# Altium footprint library PcbLib1.PcbLib: 15 footprints
Each footprint in its own frame and in the unit in brackets; x right, y up, seen from the top. Pads: shape width x height; smd on the part's side, far side on the other; paste and mask are expansions set on the pad; w line width, h text height; cw(c..) or ccw(c..) is an arc to the next point about the centre after c.
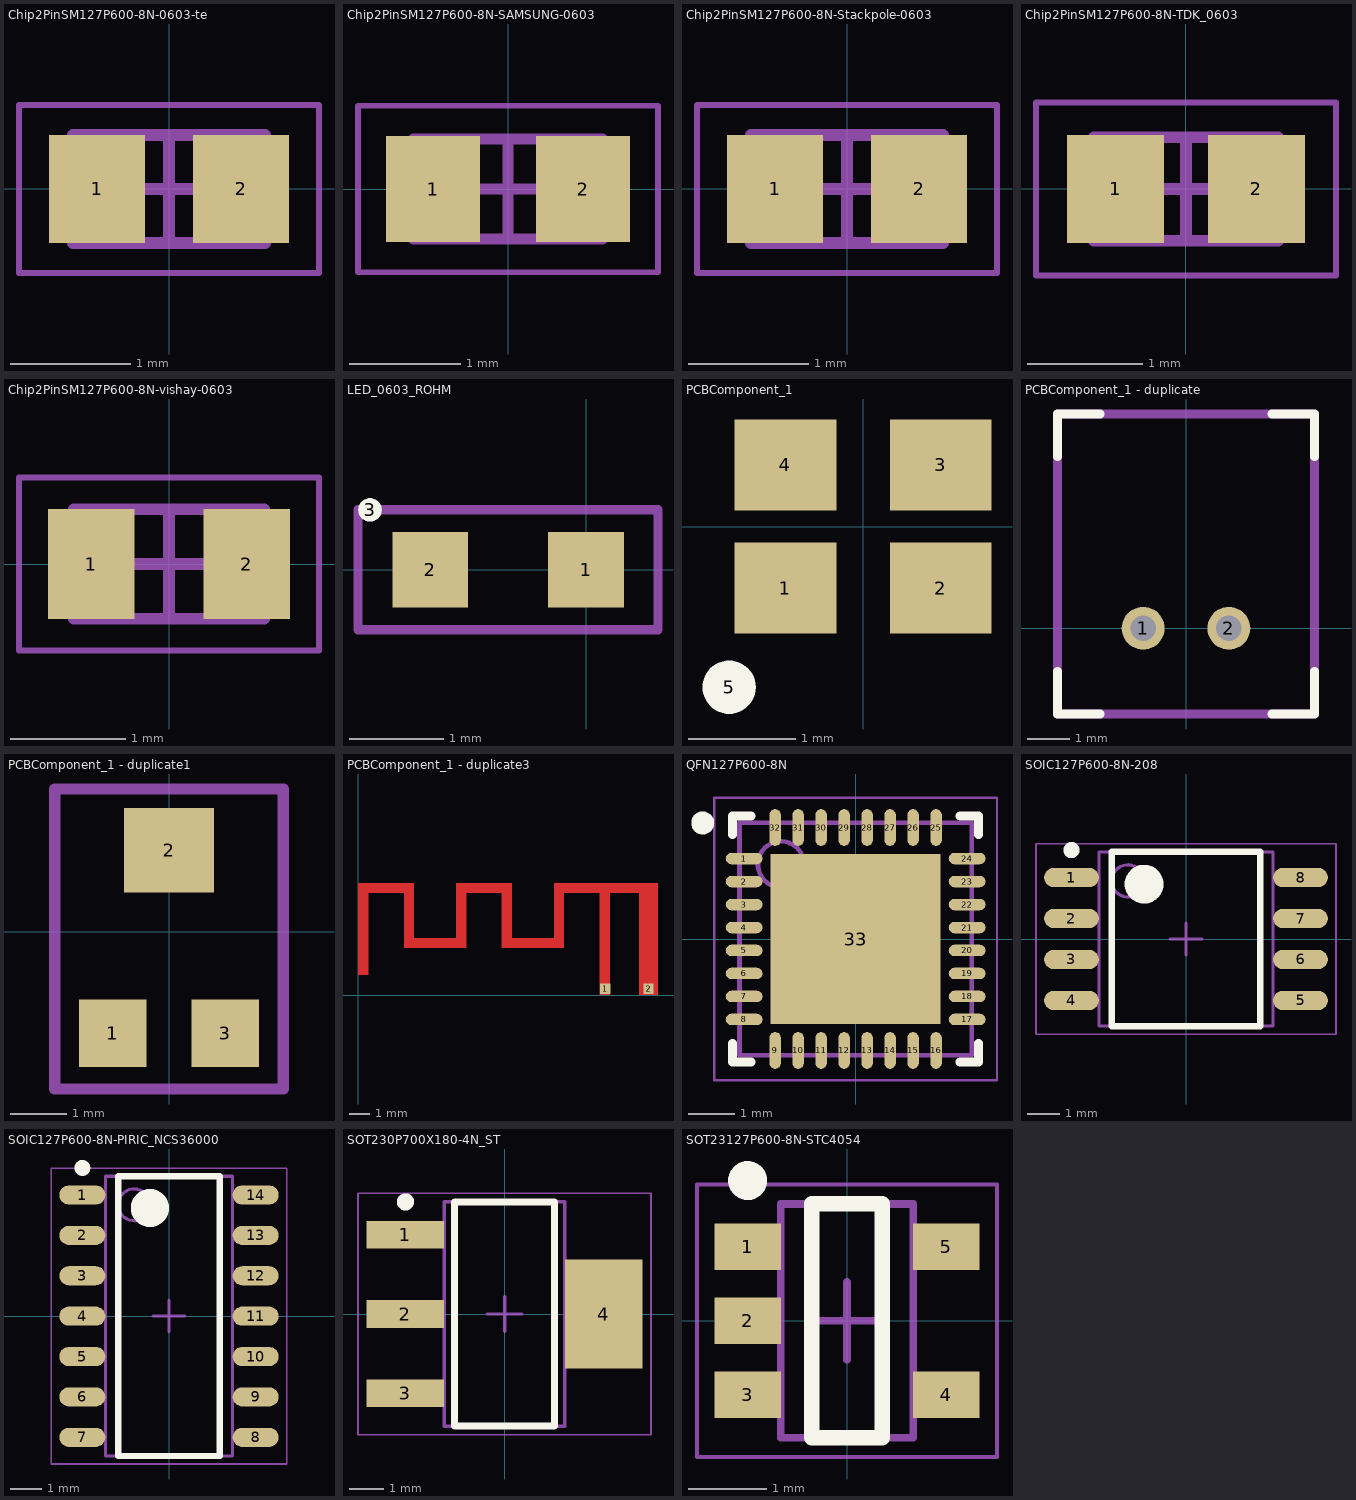
[diagram p0: the footprints below, top view; thin cyan lines are the x and y axes]

## Chip2PinSM127P600-8N-0603-te [mm]
height 0.65
pads (2):
  rect 0.8x0.9 smd: 1(-0.6,0) 2(0.6,0)
Mechanical 13:
  lines w0.1: -0.8,-0.45 0.8,-0.45 0.8,0.45 -0.8,0.45 -0.8,-0.45
Mechanical 15:
  lines w0.05: -1.25,-0.7 1.25,-0.7 1.25,0.7 -1.25,0.7 -1.25,-0.7
  lines w0.1: -0.45,0 0.45,0 ; 0,-0.45 0,0.45
3D body "Chip2PinSM127P600-8N-0603-te.step": height 0.65, standoff 0, extent -0.8,-0.45 0.8,0.45

## Chip2PinSM127P600-8N-SAMSUNG-0603 [mm]
height 0.9
pads (2):
  rect 0.85x0.95 smd: 1(-0.675,0) 2(0.675,0)
Mechanical 13:
  lines w0.1: -0.85,-0.45 0.85,-0.45 0.85,0.45 -0.85,0.45 -0.85,-0.45
Mechanical 15:
  lines w0.05: -1.35,-0.75 1.35,-0.75 1.35,0.75 -1.35,0.75 -1.35,-0.75
  lines w0.1: -0.45,0 0.45,0 ; 0,-0.45 0,0.45
3D body: height 0.9, standoff 0, extent 0.55,-0.45 0.85,0.45
3D body: height 0.9, standoff 0, extent -0.85,-0.45 -0.55,0.45
3D body: height 0.9, standoff 0, extent -0.55,-0.45 0.55,0.45

## Chip2PinSM127P600-8N-Stackpole-0603 [mm]
height 0.5
pads (2):
  rect 0.8x0.9 smd: 1(-0.6,0) 2(0.6,0)
Mechanical 13:
  lines w0.1: -0.8,-0.45 0.8,-0.45 0.8,0.45 -0.8,0.45 -0.8,-0.45
Mechanical 15:
  lines w0.05: -1.25,-0.7 1.25,-0.7 1.25,0.7 -1.25,0.7 -1.25,-0.7
  lines w0.1: -0.45,0 0.45,0 ; 0,-0.45 0,0.45
3D body "Chip2PinSM127P600-8N.step": height 0.5, standoff 0, extent -0.8,-0.45 0.8,0.45

## Chip2PinSM127P600-8N-TDK_0603 [mm]
height 0.9
pads (2):
  rect 0.84x0.94 smd: 1(-0.61,0) 2(0.61,0)
Mechanical 13:
  lines w0.1: -0.8,-0.45 -0.8,0.45 0.8,0.45 0.8,-0.45 -0.8,-0.45
Mechanical 15:
  lines w0.05: -1.3,-0.75 -1.3,0.75 1.3,0.75 1.3,-0.75 -1.3,-0.75
  lines w0.1: -0.45,0 0.45,0 ; 0,-0.45 0,0.45
3D body "Chip2PinSM127P600-8N-TDK_0603.step": height 0.9, standoff 0, extent -0.8,-0.45 0.8,0.45

## Chip2PinSM127P600-8N-vishay-0603 [mm]
height 0.5
pads (2):
  rect 0.75x0.95 smd: 1(-0.675,0) 2(0.675,0)
Mechanical 13:
  lines w0.1: -0.825,-0.475 -0.825,0.475 0.825,0.475 0.825,-0.475 -0.825,-0.475
Mechanical 15:
  lines w0.05: -1.3,-0.75 -1.3,0.75 1.3,0.75 1.3,-0.75 -1.3,-0.75
  lines w0.1: -0.475,0 0.475,0 ; 0,-0.475 0,0.475
3D body "Chip2PinSM127P600-8N-vishay-0603.step": height 0.5, standoff 0, extent -0.825,-0.475 0.825,0.475

## LED_0603_ROHM [mm]
pads (3):
  rect 0.8x0.8 smd: 1(0,0) 2(-1.65,0)
  round 0.25 on Top Overlay: 3(-2.286,0.635)
Mechanical 15:
  lines w0.1: -2.413,-0.635 0.762,-0.635 0.762,0.635 -2.413,0.635 -2.413,-0.635
3D body "User Library-LED SMD0603.step": height 0.68, standoff 0, extent -1.714,-0.344 -0.064,0.381

## PCBComponent_1 [mm]
pads (5):
  rect 0.95x0.85 smd: 1(-0.725,-0.575) 2(0.725,-0.575) 3(0.725,0.575) 4(-0.725,0.575)
  round 0.5 on Top Overlay: 5(-1.25,-1.5)
3D body "User Library-Xtal SMD QUANTEK QX3CA.STEP": height 1.1, standoff 0, extent -1.6,-1.25 1.6,1.25

## PCBComponent_1 - duplicate [mm]
pads (2):
  round 1 hole 0.6: 1(-1,0) 2(1,0)
Top Overlay:
  lines w0.203: -3,-1 -3,-2 -2,-2 ; -3,4 -3,5 -2,5 ; 2,-2 3,-2 3,-1 ; 2,5 3,5 3,4
Mechanical 15:
  lines w0.203: -3,-2 3,-2 3,5 -3,5 -3,-2
3D body "User Library-S2B-PH-SM4-TB_step.step": height 4.8, standoff 0, extent -3.9,-2 4,6.6

## PCBComponent_1 - duplicate1 [mm]
pads (3):
  rect 1.2x1.2 smd: 1(-1,-1.8) 3(1,-1.8)
  rect 1.6x1.5 smd: 2(0,1.45)
Mechanical 15:
  lines w0.203: -2.032,-2.794 2.032,-2.794 2.032,2.54 -2.032,2.54 -2.032,-1.778 -2.032,-2.794
3D body "User Library-TC-33X-2.step": height 1.13, standoff -0.02, extent -1.8,-1.913 1.8,2.05

## PCBComponent_1 - duplicate3 [mm]
pads (2):
  rect 0.5x0.5 smd paste+0 mask+0: 1(11.862,0.305) 2(13.945,0.305)
Top Layer:
  region: 9.9,4.9 9.4,4.9 9.4,2.26 9.9,2.26
  region: 7.4,5.4 4.7,5.4 4.7,4.9 7.4,4.9
  region: 7.4,4.9 6.9,4.9 6.9,2.26 7.4,2.26
  region: 5.2,4.9 4.7,4.9 4.7,2.26 5.2,2.26
  region: 9.4,2.76 7.4,2.76 7.4,2.26 9.4,2.26
  region: 2.7,5.4 0,5.4 0,4.9 2.7,4.9
  region: 4.7,2.76 2.7,2.76 2.7,2.26 4.7,2.26
  region: 2.7,4.9 2.2,4.9 2.2,2.26 2.7,2.26
  region: 0.5,4.9 0,4.9 0,0.96 0.5,0.96
  region: 14.4,5.4 9.4,5.4 9.4,4.9 14.4,4.9
  region: 12.1,4.9 11.6,4.9 11.6,0 12.1,0
  region: 14.4,4.9 13.5,4.9 13.5,0 14.4,0

## QFN127P600-8N [mm] "ESP8266"
height 0.9
pads (33):
  oval 0.8x0.25 smd: 1(-2.425,1.75) 2(-2.425,1.25) 3(-2.425,0.75) 4(-2.425,0.25) 5(-2.425,-0.25) 6(-2.425,-0.75) 7(-2.425,-1.25) 8(-2.425,-1.75) 17(2.425,-1.75) 18(2.425,-1.25) 19(2.425,-0.75) 20(2.425,-0.25) 21(2.425,0.25) 22(2.425,0.75) 23(2.425,1.25) 24(2.425,1.75)
  oval 0.25x0.8 smd: 9(-1.75,-2.425) 10(-1.25,-2.425) 11(-0.75,-2.425) 12(-0.25,-2.425) 13(0.25,-2.425) 14(0.75,-2.425) 15(1.25,-2.425) 16(1.75,-2.425) 25(1.75,2.425) 26(1.25,2.425) 27(0.75,2.425) 28(0.25,2.425) 29(-0.25,2.425) 30(-0.75,2.425) 31(-1.25,2.425) 32(-1.75,2.425)
  rect 3.7x3.7 smd: 33(0,0)
Top Overlay:
  circle w0.25: c-3.325,2.525 r0.125
  lines w0.2: -2.675,-2.275 -2.675,-2.675 -2.275,-2.675 ; -2.675,2.275 -2.675,2.675 -2.275,2.675 ; 2.275,-2.675 2.675,-2.675 2.675,-2.275 ; 2.275,2.675 2.675,2.675 2.675,2.275
Mechanical 13:
  circle w0.1: c-1.625,1.625 r0.5
  lines w0.1: -2.525,-2.525 -2.525,2.525 2.525,2.525 2.525,-2.525 -2.525,-2.525
Mechanical 15:
  lines w0.05: -3.075,-3.075 -3.075,3.075 3.075,3.075 3.075,-3.075 -3.075,-3.075
  lines w0.1: -0.5,0 0.5,0 ; 0,-0.5 0,0.5
3D body "User Library-QFN-32-5x5 - EQ.STEP": height 0.85, standoff 0, extent -2.5,-2.5 2.5,2.5
3D body "User Library-QFN-32-5x5 - EQ.STEP": height 0.85, standoff 0, extent -2.5,-2.5 2.5,2.5

## SOIC127P600-8N-208 [mm]
height 1.75
pads (8):
  oval 1.7x0.6 smd: 1(-3.55,1.905) 2(-3.55,0.635) 3(-3.55,-0.635) 4(-3.55,-1.905) 5(3.55,-1.905) 6(3.55,-0.635) 7(3.55,0.635) 8(3.55,1.905)
Top Overlay:
  circle w0.6: c-1.3,1.7 r0.3
  circle w0.25: c-3.55,2.755 r0.125
  lines w0.2: -2.3,-2.7 2.3,-2.7 2.3,2.7 -2.3,2.7 -2.3,-2.7
Mechanical 13:
  circle w0.1: c-1.8,1.8 r0.5
  lines w0.1: -2.7,-2.7 2.7,-2.7 2.7,2.7 -2.7,2.7 -2.7,-2.7
Mechanical 15:
  lines w0.05: -4.65,-2.95 4.65,-2.95 4.65,2.95 -4.65,2.95 -4.65,-2.95
  lines w0.1: -0.5,0 0.5,0 ; 0,-0.5 0,0.5
3D body "SOIC127P600-8N-208.step": height 1.75, standoff 0, extent -3.95,-2.7 3.95,2.7

## SOIC127P600-8N-PIRIC_NCS36000 [mm]
height 1.75
pads (14):
  oval 1.45x0.6 smd: 1(-2.725,3.81) 2(-2.725,2.54) 3(-2.725,1.27) 4(-2.725,0) 5(-2.725,-1.27) 6(-2.725,-2.54) 7(-2.725,-3.81) 8(2.725,-3.81) 9(2.725,-2.54) 10(2.725,-1.27) 11(2.725,0) 12(2.725,1.27) 13(2.725,2.54) 14(2.725,3.81)
Top Overlay:
  circle w0.25: c-2.725,4.66 r0.125
  circle w0.6: c-0.6,3.4 r0.3
  lines w0.2: -1.6,-4.4 -1.6,4.4 1.6,4.4 1.6,-4.4 -1.6,-4.4
Mechanical 13:
  circle w0.1: c-1.1,3.5 r0.5
  lines w0.1: -2,-4.4 -2,4.4 2,4.4 2,-4.4 -2,-4.4
Mechanical 15:
  lines w0.05: -3.7,-4.65 -3.7,4.65 3.7,4.65 3.7,-4.65 -3.7,-4.65
  lines w0.1: -0.5,0 0.5,0 ; 0,-0.5 0,0.5
3D body "User Library-SOIC14-150.step": height 1.75, standoff 0, extent -2.828,-4.267 2.972,4.283

## SOT230P700X180-4N_ST [mm] "SOT223, 4-Leads, Body 6.40x7.00mm (avg), Pitch 2.30mm, IPC Medium Density"
height 1.8
pads (4):
  rect 2.25x0.8 smd: 1(-2.875,2.3) 2(-2.875,0) 3(-2.875,-2.3)
  rect 2.25x3.15 smd: 4(2.875,0)
Top Overlay:
  circle w0.25: c-2.875,3.25 r0.125
  lines w0.2: -1.45,-3.25 -1.45,3.25 1.45,3.25 1.45,-3.25 -1.45,-3.25
Mechanical 13:
  lines w0.1: -1.75,-3.25 -1.75,3.25 1.75,3.25 1.75,-3.25 -1.75,-3.25
Mechanical 15:
  lines w0.05: -4.25,-3.5 -4.25,3.5 4.25,3.5 4.25,-3.5 -4.25,-3.5
  lines w0.1: -0.5,0 0.5,0 ; 0,-0.5 0,0.5
3D body "User Library-TO-223.STEP": height 1.64, standoff -0.04, extent -3.642,-3.293 3.338,3.192

## SOT23127P600-8N-STC4054 [mm]
height 1.1
pads (5):
  rect 0.85x0.6 smd: 1(-1.275,0.95) 2(-1.275,0) 3(-1.275,-0.95) 4(1.275,-0.95) 5(1.275,0.95)
Top Overlay:
  circle w0.25: c-1.275,1.8 r0.125
  lines w0.2: -0.45,-1.5 0.45,-1.5 0.45,1.5 -0.45,1.5 -0.45,-1.5
Mechanical 13:
  lines w0.1: -0.85,-1.5 -0.85,1.5 0.85,1.5 0.85,-1.5 -0.85,-1.5
Mechanical 15:
  lines w0.05: -1.925,-1.75 -1.925,1.75 1.925,1.75 1.925,-1.75 -1.925,-1.75
  lines w0.1: -0.5,0 0.5,0 ; 0,-0.5 0,0.5
3D body "SOT23127P600-8N-STC4054.step": height 1.1, standoff 0, extent -1.3,-1.5 1.3,1.5